# Altium footprint library Connectors.PcbLib: 3 footprints
Each footprint in its own frame and in the unit in brackets; x right, y up, seen from the top. Pads: shape width x height; smd on the part's side, far side on the other; paste and mask are expansions set on the pad; w line width, h text height; cw(c..) or ccw(c..) is an arc to the next point about the centre after c.
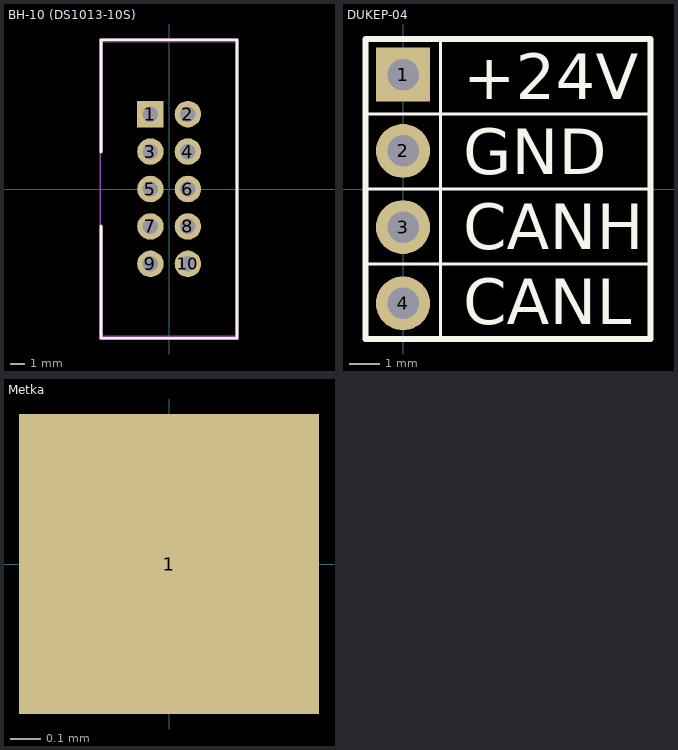
[diagram p0: the footprints below, top view; thin cyan lines are the x and y axes]

## BH-10 (DS1013-10S) [mm]
pads (10):
  rect 1.8x1.8 hole 1.05 mask+0: 1(-1.27,5.08)
  round 1.8 hole 1.05 mask+0: 2(1.27,5.08) 3(-1.27,2.54) 4(1.27,2.54) 5(-1.27,0) 6(1.27,0) 7(-1.27,-2.54) 8(1.27,-2.54) 9(-1.27,-5.08) 10(1.27,-5.08)
Top Overlay:
  lines w0.2: -4.625,-2.5 -4.625,-10.125 4.6,-10.125 4.6,10.1 4.6,10.125 -4.625,10.125 -4.625,2.5
Top Assy:
  lines w0.1: -4.55,-2.5 -4.55,-10 4.55,-10 4.55,10 -4.55,10 -4.55,2.5
Border:
  lines w0.1: -4.675,-10.175 -4.675,10.175 4.65,10.175 4.65,-10.175 -4.675,-10.175
3D body "User Library-BH-10___64.STEP": height 8.84, standoff -3.3, extent -4.5,-10.185 4.7,10.175

## DUKEP-04 [mm]
pads (4):
  rect 1.8x1.8 hole 1.05 mask+0: 1(0,3.81)
  round 1.8 hole 1.05 mask+0: 2(0,1.27) 3(0,-1.27) 4(0,-3.81)
Top Overlay:
  lines w0.1: -1.25,-2.5 8.25,-2.5 ; -1.25,0 8.25,0 ; -1.25,2.5 8.25,2.5 ; 1.25,-5 1.25,5
  lines w0.2: -1.25,-5 8.25,-5 8.25,5 -1.25,5 -1.25,-5
  text "+24V" at 2,3 h1.52
  text "GND" at 2,0.5 h1.52
  text "CANH" at 2,-2 h1.52
  text "CANL" at 2,-4.5 h1.52
Top Assy:
  lines w0.1: -1.25,-5 -1.25,5 8.25,5 8.25,-5 -1.25,-5
Border:
  lines w0.1: -1.25,-5 -1.25,5 8.25,5 8.25,-5 -1.25,-5

## Metka [mm]
pads (1):
  rect 1x1 smd: 1(0,0)